# Altium footprint library H750.PcbLib: 22 footprints (part 2 of 2)
Each footprint in its own frame and in the unit in brackets; x right, y up, seen from the top. Pads: shape width x height; smd on the part's side, far side on the other; paste and mask are expansions set on the pad; w line width, h text height; cw(c..) or ccw(c..) is an arc to the next point about the centre after c.
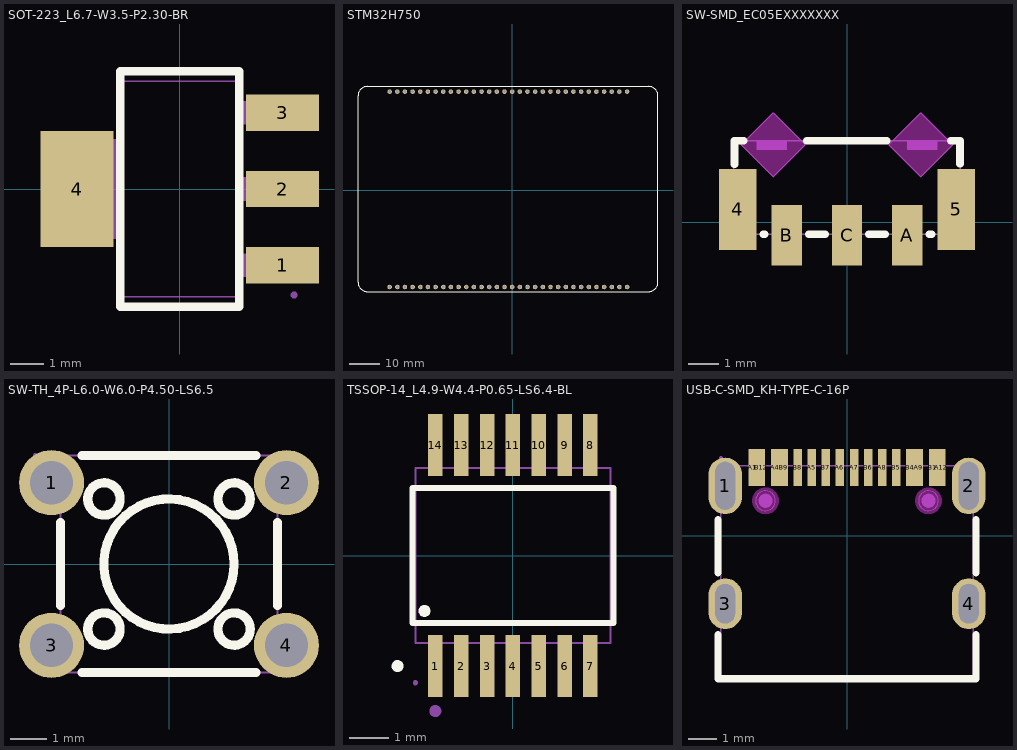
[diagram p1: the footprints below, top view; thin cyan lines are the x and y axes]

## SOT-223_L6.7-W3.5-P2.30-BR [mm]
pads (4):
  rect 2.2x1.1 smd: 1(3.099,-2.3) 2(3.099,0) 3(3.099,2.3)
  rect 2.2x3.5 smd: 4(-3.099,0)
Top Overlay:
  lines w0.254: -1.8,-3.55 -1.8,3.55 1.8,3.55 1.8,-3.55 -1.8,-3.55
Mechanical 6:
  circle w0.254: c3.683,-2.286 r0.127
Mechanical 15:
  region: -3.5,-1.5 -3.5,1.5 -2.6,1.5 -2.6,-1.5
  region: -2.61,-1.5 -2.61,1.5 -1.74,1.5 -1.74,-1.5
  region: 2.6,-2.65 2.6,-1.95 3.5,-1.95 3.5,-2.65
  region: 1.74,-2.65 1.74,-1.95 2.61,-1.95 2.61,-2.65
  region: 2.6,-0.35 2.6,0.35 3.5,0.35 3.5,-0.35
  region: 1.74,-0.35 1.74,0.35 2.61,0.35 2.61,-0.35
  region: 2.6,1.95 2.6,2.65 3.5,2.65 3.5,1.95
  region: 1.74,1.95 1.74,2.65 2.61,2.65 2.61,1.95
  region: 3.55,-3.2 3.55,-3.241 3.491,-3.3 3.409,-3.3 3.35,-3.242 3.35,-3.2 3.35,-3.159 3.408,-3.1 3.491,-3.1 3.55,-3.159 3.55,-3.2
  lines w0.051: -1.75,-3.25 1.75,-3.25 1.75,3.25 -1.75,3.25 -1.75,-3.25

## STM32H750 [mm]
pads (64):
  round 1.5 hole 0.9: 1(-40.63,-32.107) 2(-38.09,-32.107) 3(-35.55,-32.107) 4(-33.01,-32.107) 5(-30.47,-32.107) 6(-27.93,-32.107) 7(-25.39,-32.107) 8(-22.85,-32.107) 9(-20.31,-32.107) 10(-17.77,-32.107) 11(-15.23,-32.107) 12(-12.69,-32.107) 13(-10.15,-32.107) 14(-7.61,-32.107) 15(-5.07,-32.107) 16(-2.53,-32.107) 17(0.01,-32.107) 18(2.55,-32.107) 19(5.09,-32.107) 20(7.63,-32.107) 21(10.17,-32.107) 22(12.71,-32.107) 23(15.25,-32.107) 24(17.79,-32.107) 25(20.33,-32.107) 26(22.87,-32.107) 27(25.41,-32.107) 28(27.95,-32.107) 29(30.49,-32.107) 30(33.03,-32.107) 31(35.57,-32.107) 32(38.11,-32.107) 33(-40.647,32.693) 34(-38.107,32.693) 35(-35.567,32.693) 36(-33.027,32.693) 37(-30.487,32.693) 38(-27.947,32.693) 39(-25.407,32.693) 40(-22.867,32.693) 41(-20.327,32.693) 42(-17.787,32.693) 43(-15.247,32.693) 44(-12.707,32.693) 45(-10.167,32.693) 46(-7.627,32.693) 47(-5.087,32.693) 48(-2.547,32.693) 49(-0.007,32.693) 50(2.533,32.693) 51(5.073,32.693) 52(7.613,32.693) 53(10.153,32.693) 54(12.693,32.693) 55(15.233,32.693) 56(17.773,32.693) 57(20.313,32.693) 58(22.853,32.693) 59(25.393,32.693) 60(27.933,32.693) 61(30.473,32.693) 62(33.013,32.693) 63(35.553,32.693) 64(38.093,32.693)
Top Overlay:
  lines w0.35: -48.387,-33.607 45.613,-33.607 ; -48.387,34.393 45.613,34.393 ; -48.133,-33.607 cw(c-48.133,-30.607) -51.133,-30.607 -51.133,31.393 cw(c-48.133,31.393) -48.133,34.393 ; 45.359,-33.607 ccw(c45.359,-30.607) 48.359,-30.607 48.359,31.393 ccw(c45.359,31.393) 45.359,34.393
Bottom Overlay:
  lines w0.35: -50.66,-25.607 -42.06,-25.607 -42.06,26.393 -50.66,26.393 -50.66,-25.607

## SW-SMD_EC05EXXXXXXX [mm]
pads (5):
  rect 1.25x2.7 smd: 4(-3.625,0.425) 5(3.625,0.425)
  rect 1x2 smd: A(2,-0.425) B(-2,-0.425) C(0,-0.425)
Top Overlay:
  lines w0.254: -3.73,1.93 -3.73,2.7 -3.43,2.7 ; -2.769,-0.4 -2.731,-0.4 ; -1.33,2.7 1.32,2.7 ; -1.269,-0.4 -0.731,-0.4 ; 0.731,-0.4 1.269,-0.4 ; 2.731,-0.4 2.8,-0.4 ; 3.45,2.71 3.75,2.71 3.75,1.94
Keep-Out Layer:
  board cut-out: 2.44,3.635 3.5,2.575 2.44,1.515 1.38,2.575
  board cut-out: -2.44,3.635 -3.5,2.575 -2.44,1.515 -1.38,2.575
Keep-Out Layer:
  region: 2.44,3.635 3.5,2.575 2.44,1.515 1.38,2.575
  region: -2.44,3.635 -3.5,2.575 -2.44,1.515 -1.38,2.575
  lines w0.005: -3.5,2.575 -2.44,1.515 -1.38,2.575 -2.44,3.635 -3.5,2.575 ; 1.38,2.575 2.44,3.635 3.5,2.575 2.44,1.515 1.38,2.575
Mechanical 1:
  lines w0.005: -3.5,2.575 -2.44,1.515 -1.38,2.575 -2.44,3.635 -3.5,2.575 ; 1.38,2.575 2.44,3.635 3.5,2.575 2.44,1.515 1.38,2.575
Mechanical 6:
  region: 3,2.4 2,2.4 2,2.7 3,2.7
  region: -2,2.4 -3,2.4 -3,2.7 -2,2.7
Mechanical 15:
  region: 3.25,0.901 3.75,0.901 3.75,-0.299 3.25,-0.299
  region: -3.75,0.901 -3.25,0.901 -3.25,-0.299 -3.75,-0.299
  region: 1.7,0.4 2.3,0.4 2.3,-0.6 1.7,-0.6
  region: -0.3,0.4 0.3,0.4 0.3,-0.6 -0.3,-0.6
  region: -2.3,0.4 -1.7,0.4 -1.7,-0.6 -2.3,-0.6
  region: -3.75,2.64 -3.725,2.64 -3.69,2.675 -3.69,2.725 -3.725,2.76 -3.75,2.76 -3.775,2.76 -3.81,2.725 -3.81,2.675 -3.775,2.64 -3.75,2.64
  lines w0.051: -3.75,-0.4 3.75,-0.4 3.75,2.7 -3.75,2.7 -3.75,-0.4

## SW-TH_4P-L6.0-W6.0-P4.50-LS6.5 [mm]
pads (4):
  round 1.8 hole 1.2: 1(-3.25,2.25) 2(3.25,2.25) 3(-3.25,-2.25) 4(3.25,-2.25)
Top Overlay:
  circle w0.254: c1.8,-1.8 r0.447
  circle w0.254: c-1.8,-1.8 r0.447
  circle w0.254: c-1.8,1.8 r0.447
  circle w0.254: c1.8,1.8 r0.447
  circle w0.254: c0,0 r1.8
  lines w0.254: -3,-1.147 -3,1.147 ; -2.404,-3 2.404,-3 ; -2.404,3 2.404,3 ; 3,-1.147 3,1.147
Mechanical 15:
  region: 3.1,-1.9 3.4,-1.9 3.4,-2.6 3.1,-2.6
  region: 3.1,2.6 3.4,2.6 3.4,1.9 3.1,1.9
  region: -3.4,2.6 -3.1,2.6 -3.1,1.9 -3.4,1.9
  region: -3.4,-1.9 -3.1,-1.9 -3.1,-2.6 -3.4,-2.6
  region: 2.9,-2.6 2.9,-1.9 3.7,-1.9 3.7,-2.6
  region: 2.9,1.9 2.9,2.6 3.7,2.6 3.7,1.9
  region: -2.9,2.6 -2.9,1.9 -3.7,1.9 -3.7,2.6
  region: -2.9,-1.9 -2.9,-2.6 -3.7,-2.6 -3.7,-1.9
  region: -3.7,3.06 -3.725,3.06 -3.76,3.025 -3.76,2.975 -3.725,2.94 -3.7,2.94 -3.675,2.94 -3.64,2.975 -3.64,3.025 -3.675,3.06 -3.7,3.06
  lines w0.051: -3,-3 -3,3 3,3 3,-3 -3,-3

## TSSOP-14_L4.9-W4.4-P0.65-LS6.4-BL [mm]
pads (14):
  rect 0.364x1.56 smd: 1(-1.95,-2.78) 2(-1.3,-2.78) 3(-0.65,-2.78) 4(0,-2.78) 5(0.65,-2.78) 6(1.3,-2.78) 7(1.95,-2.78) 8(1.95,2.78) 9(1.3,2.78) 10(0.65,2.78) 11(0,2.78) 12(-0.65,2.78) 13(-1.3,2.78) 14(-1.95,2.78)
Top Overlay:
  circle w0.15: c-2.9,-2.78 r0.075
  circle w0.15: c-2.224,-1.393 r0.075
  lines w0.152: -2.526,-1.695 2.526,-1.695 2.526,1.695 -2.526,1.695 -2.526,-1.695
Mechanical 6:
  circle w0.15: c-1.95,-3.911 r0.075
Mechanical 15:
  drawing of 33 lines, arcs and shapes, not listed

## USB-C-SMD_KH-TYPE-C-16P [mm]
pads (20):
  oval 1.2x2 hole 0.7 slot 1.7 at 90 deg: 1(-4.32,1.765) 2(4.32,1.765)
  oval 1.2x1.8 hole 0.7 slot 1.4 at 90 deg: 3(-4.32,-2.415) 4(4.32,-2.415)
  rect 0.3x1.3 smd paste-100 mask+0.05: A1(-3.35,2.415) A4(-2.55,2.415) A5(-1.25,2.415) A6(-0.25,2.415) A7(0.25,2.415) A8(1.25,2.415) A9(2.55,2.415) A12(3.35,2.415) B1(3.05,2.415) B4(2.25,2.415) B5(1.75,2.415) B6(0.75,2.415) B7(-0.75,2.415) B8(-1.75,2.415) B9(-2.25,2.415) B12(-3.05,2.415)
Top Overlay:
  lines w0.254: -4.572,-3.507 -4.572,-5.08 4.572,-5.08 4.572,-3.507 ; -4.572,-1.323 -4.572,0.573 ; 4.572,-1.323 4.572,0.573
Top Paste:
  drawing of 16 lines, arcs and shapes, not listed
Keep-Out Layer:
  board cut-out: 2.89,0.885 2.821,0.886 2.694,0.94 2.598,1.038 2.545,1.166 2.545,1.304 2.598,1.431 2.694,1.53 2.821,1.584 2.89,1.585 2.959,1.584 3.086,1.53 3.182,1.431 3.235,1.304 3.235,1.166 3.182,1.038 3.086,0.94 2.959,0.886 2.89,0.885
  board cut-out: -2.89,0.885 -2.959,0.886 -3.086,0.94 -3.182,1.038 -3.235,1.166 -3.235,1.304 -3.182,1.431 -3.086,1.53 -2.959,1.584 -2.89,1.585 -2.821,1.584 -2.694,1.53 -2.598,1.431 -2.545,1.304 -2.545,1.166 -2.598,1.038 -2.694,0.94 -2.821,0.886 -2.89,0.885
Keep-Out Layer:
  circle w0.254: c2.89,1.235 r0.35
  circle w0.005: c2.89,1.235 r0.35
  circle w0.254: c-2.89,1.235 r0.35
  circle w0.005: c-2.89,1.235 r0.35
Mechanical 1:
  circle w0.005: c2.89,1.235 r0.35
  circle w0.005: c-2.89,1.235 r0.35
Mechanical 6:
  circle w0.25: c2.89,1.235 r0.125
  circle w0.25: c-2.89,1.235 r0.125
Mechanical 15:
  region: -3.2,2.76 -3,2.76 -3,1.76 -3.2,1.76
  region: -3.4,2.76 -3.2,2.76 -3.2,1.76 -3.4,1.76
  region: -2.4,2.76 -2.2,2.76 -2.2,1.76 -2.4,1.76
  region: -2.6,2.76 -2.4,2.76 -2.4,1.76 -2.6,1.76
  region: 2.4,2.76 2.6,2.76 2.6,1.76 2.4,1.76
  region: 2.2,2.76 2.4,2.76 2.4,1.76 2.2,1.76
  region: 3.2,2.76 3.4,2.76 3.4,1.76 3.2,1.76
  region: 3,2.76 3.2,2.76 3.2,1.76 3,1.76
  region: -1.85,2.76 -1.65,2.76 -1.65,1.76 -1.85,1.76
  region: -1.35,2.76 -1.15,2.76 -1.15,1.76 -1.35,1.76
  region: -0.85,2.76 -0.65,2.76 -0.65,1.76 -0.85,1.76
  region: -0.35,2.76 -0.15,2.76 -0.15,1.76 -0.35,1.76
  region: 0.15,2.76 0.35,2.76 0.35,1.76 0.15,1.76
  region: 0.65,2.76 0.85,2.76 0.85,1.76 0.65,1.76
  region: 1.65,2.76 1.85,2.76 1.85,1.76 1.65,1.76
  region: 1.15,2.76 1.35,2.76 1.35,1.76 1.15,1.76
  region: 4.17,-2.015 4.47,-2.015 4.47,-2.815 4.17,-2.815
  region: -4.47,-2.015 -4.17,-2.015 -4.17,-2.815 -4.47,-2.815
  region: 4.17,2.315 4.47,2.315 4.47,1.215 4.17,1.215
  region: -4.47,2.315 -4.17,2.315 -4.17,1.215 -4.47,1.215
  region: -4.47,2.7 -4.495,2.7 -4.529,2.735 -4.529,2.784 -4.495,2.82 -4.47,2.82 -4.445,2.82 -4.411,2.784 -4.411,2.735 -4.445,2.7 -4.47,2.7
  lines w0.051: -4.47,-5.08 4.47,-5.08 4.47,2.47 -4.47,2.47 -4.47,-5.08